# EAGLE library part 74HC541 (library Logic)
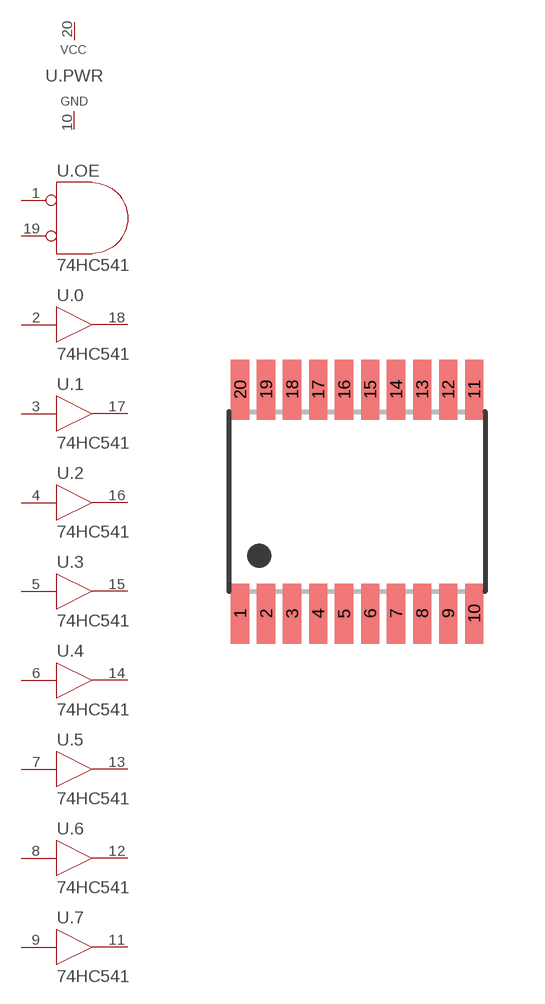
[diagram p2: symbol with the pads of TSSOP20; footprint TSSOP20]

Designator prefix U; gates .0=BUF .1=BUF .2=BUF .3=BUF .4=BUF .5=BUF .6=BUF .7=BUF .OE=!OE2 .PWR=PWR

## 74HC541  [TSSOP20]
1  .OE:A  in
2  .0:A  in
3  .1:A  in
4  .2:A  in
5  .3:A  in
6  .4:A  in
7  .5:A  in
8  .6:A  in
9  .7:A  in
10  .PWR:GND  pwr
11  .7:Y  out
12  .6:Y  out
13  .5:Y  out
14  .4:Y  out
15  .3:Y  out
16  .2:Y  out
17  .1:Y  out
18  .0:Y  out
19  .OE:B  in
20  .PWR:VCC  pwr

## Footprint TSSOP20 (pad centres in mm)
smd 0.45 x 1.5: 1 -2.275,-2.8; 2 -1.625,-2.8; 3 -0.975,-2.8; 4 -0.325,-2.8; 5 0.325,-2.8; 6 0.975,-2.8; 7 1.625,-2.8; 8 2.275,-2.8; 9 2.925,-2.8; 10 3.575,-2.8; 11 3.575,2.8; 12 2.925,2.8; 13 2.275,2.8; 14 1.625,2.8; 15 0.975,2.8; 16 0.325,2.796; 17 -0.325,2.796; 18 -0.975,2.8; 19 -1.625,2.8; 20 -2.275,2.8